# Altium footprint library CS_LIB.PCBLIB: 21 footprints (part 1 of 2)
Each footprint in its own frame and in the unit in brackets; x right, y up, seen from the top. Pads: shape width x height; smd on the part's side, far side on the other; paste and mask are expansions set on the pad; w line width, h text height; cw(c..) or ccw(c..) is an arc to the next point about the centre after c.
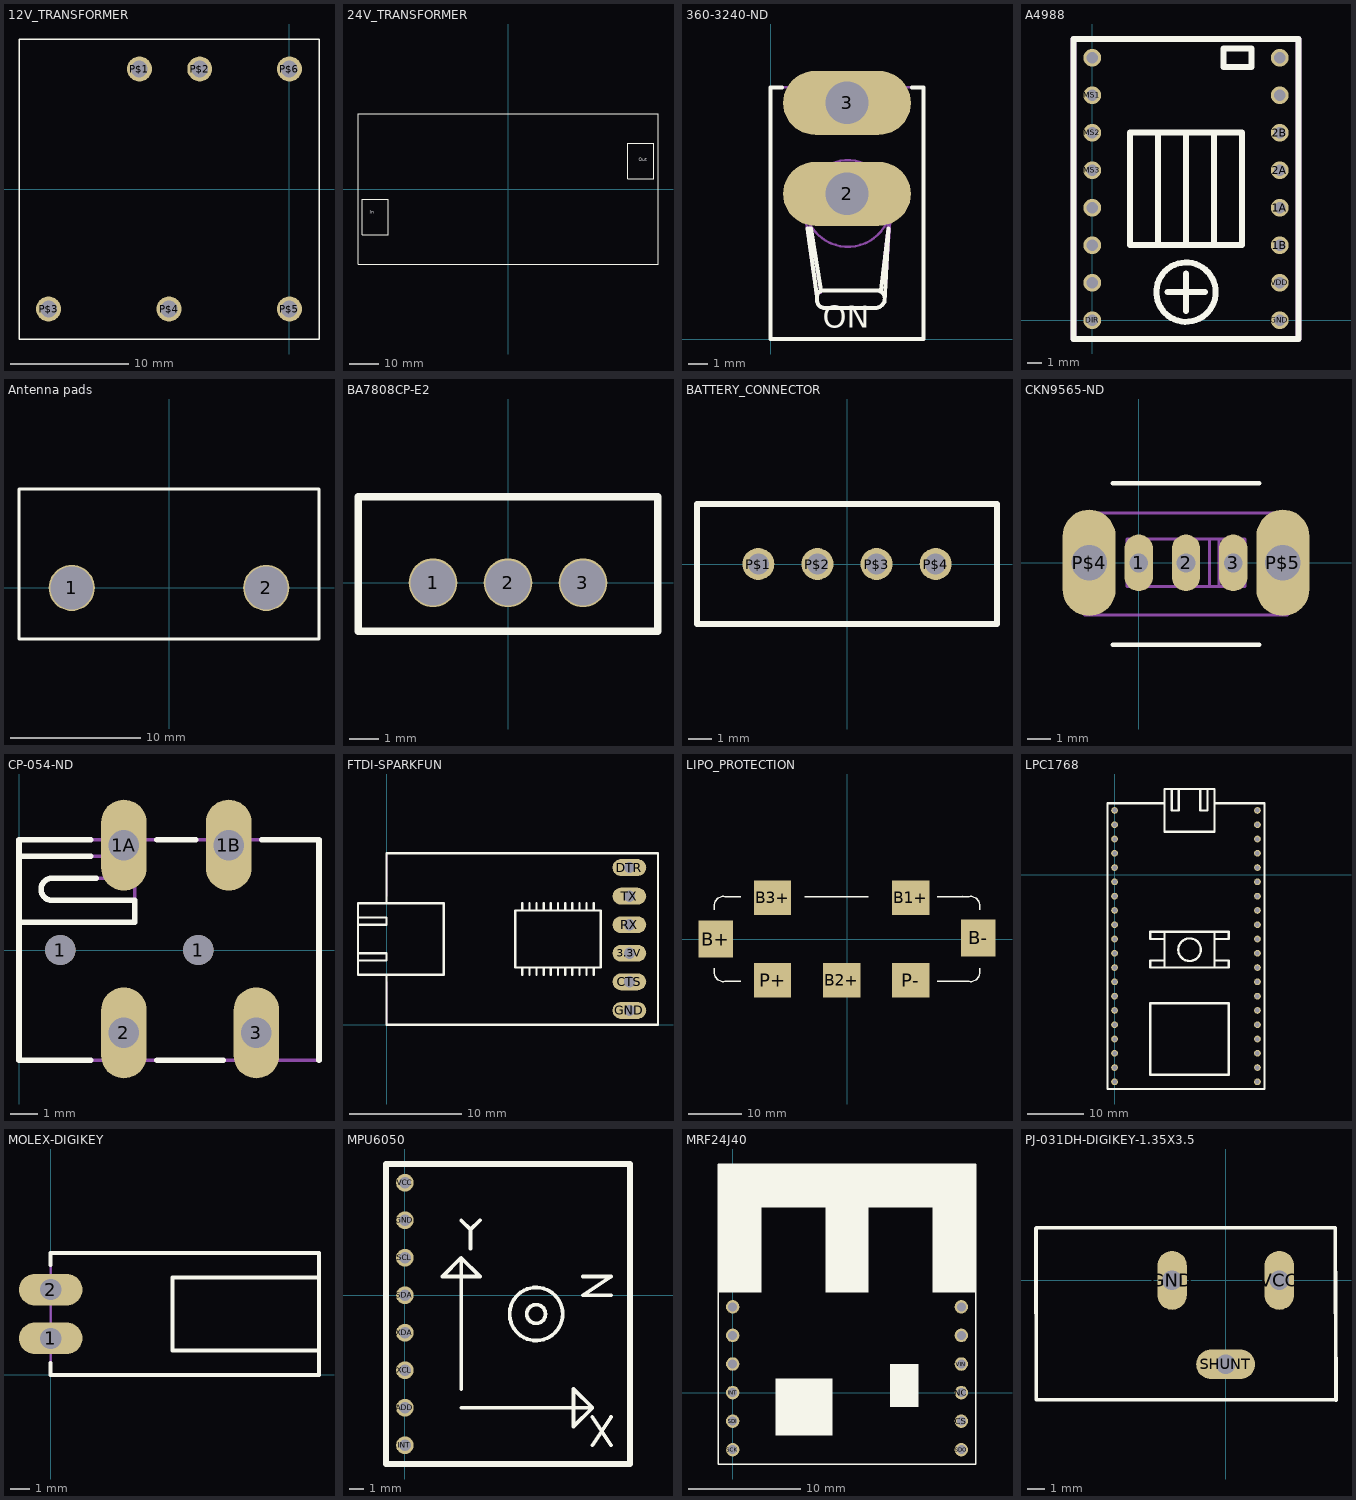
[diagram p0: the footprints below, top view; thin cyan lines are the x and y axes]

## 12V_TRANSFORMER [mm]
pads (6):
  round 2.1 hole 1.4: P$1(-12.7,10.16) P$2(-7.6,10.16) P$3(-20.4,-10.16) P$4(-10.2,-10.16) P$5(0,-10.16) P$6(0,10.16)
Top Overlay:
  lines w0.127: -22.9,-12.7 -22.9,12.7 2.5,12.7 2.5,-12.7 -22.9,-12.7

## 24V_TRANSFORMER [mil]
Top Overlay:
  lines w5: -2007.87,-1003.94 2007.87,-1003.94 2007.87,1003.94 -2007.87,1003.94 -2007.87,-1003.94 ; -1950,-610.24 -1600,-610.24 -1600,-137.8 -1950,-137.8 -1950,-610.24 ; 1600,137.8 1950,137.8 1950,610.24 1600,610.24 1600,137.8
  text "In" at -1850,-350 h77.5
  text "Out" at 1750,350 h77.5

## 360-3240-ND [mil]
pads (2):
  oval 259.83x129.91 hole 86.61: 2(155.51,295.28) 3(155.51,480.32)
Top Overlay:
  lines w8: 23.62,511.81 0,511.81 0,0 311.02,0 311.02,511.81 287.4,511.81 ; 102.36,98.43 82.68,224.41 74.8,224.41 94.49,86.61 ; 224.41,98.43 240.16,224.41 232.28,74.8 ; 94.49,86.61 cw(c106.31,86.61) 106.3,98.43 216.54,98.43 cw(c216.53,82.69) 232.28,82.68 cw(c212.59,82.67) 212.6,62.99 110.24,62.99 cw(c110.24,78.74) 94.49,78.74 94.49,86.61
  text "ON" at 106.3,7.87 h77.5
Mechanical 16:
  circle w5: c157.48,275.59 r88.03
  lines w5: 66.93,279.53 94.49,74.8 ; 70.87,287.4 102.36,94.49 ; 224.41,98.43 244.09,283.46 ; 232.28,74.8 244.09,255.91 ; 0,0 0,511.81 311.02,511.81 311.02,0 0,0 ; 94.49,78.74 ccw(c110.24,78.74) 110.24,62.99 212.6,62.99 ccw(c212.59,82.67) 232.28,82.68 ccw(c216.53,82.69) 216.54,98.43 110.24,98.43 ccw(c110.24,82.68) 94.49,82.68 94.49,78.74

## A4988 [mil]
pads (16):
  round 47.25 hole 31.5: 1A(500,300) 1B(500,200) 2A(500,400) 2B(500,500) DIR(0,0) ENABLE(0,700) GND(500,0) MS1(0,600) MS2(0,500) MS3(0,400) RESET(0,300) SLEEP(0,200) STEP(0,100) VDD(500,100) VGND(500,600) VMOT(500,700)
Top Overlay:
  circle w16: c250,75 r79.06
  lines w16: 200,75 300,75 ; 250,25 250,125 ; 175,200 100,200 100,500 175,500 ; 175,200 175,500 ; 175,200 250,200 ; 175,500 250,500 ; 250,200 325,200 ; 250,200 250,500 ; 250,500 325,500 ; 325,200 400,200 400,500 325,500 ; 325,200 325,500 ; -50,-50 -50,750 550,750 550,-50 -50,-50 ; 350,675 350,725 425,725 425,675 350,675
Mechanical 16:
  lines w16: -50,-50 550,-50 550,750 -50,750 -50,-50

## Antenna pads [mil] "sma connector standoff"
pads (2):
  round 140 hole 130: 1(-295,0) 2(295,0)
Top Overlay:
  lines w10: -455,-155 455,-155 455,300 -455,300 -455,-155

## BA7808CP-E2 [mil]
height 599
pads (3):
  round 65 hole 60: 1(-100,0) 2(0,0) 3(100,0)
Top Overlay:
  lines w10: -200,-65 -200,115 200,115 200,-65 -200,-65

## BATTERY_CONNECTOR [mil]
pads (4):
  round 53.15 hole 35.43: P$1(-147.64,0) P$2(-49.21,0) P$3(49.21,0) P$4(147.64,0)
Top Overlay:
  lines w10: -250,-100 250,-100 250,100 -250,100 -250,-100

## CKN9565-ND [mil]
pads (5):
  oval 47.25x94.5 hole 31.5: 1(0,0) 2(78.74,0) 3(157.48,0)
  oval 88.59x177.18 hole 59.06: P$4(-82.68,0) P$5(240.16,0)
Top Overlay:
  lines w8: -43.31,-136.61 200.79,-136.61 ; -43.31,132.68 200.79,132.68
Mechanical 16:
  lines w5: 118.11,-39.37 118.11,39.37 ; 118.11,-39.37 -19.69,-39.37 -19.69,39.37 118.11,39.37 ; 118.11,-39.37 133.86,-39.37 ; 118.11,39.37 133.86,39.37 ; 133.86,-39.37 133.86,39.37 ; 133.86,-39.37 145.67,-39.37 ; 133.86,39.37 145.67,39.37 ; 145.67,-39.37 145.67,39.37 ; 145.67,-39.37 157.48,-39.37 ; 145.67,39.37 157.48,39.37 ; 157.48,-39.37 157.48,39.37 ; 157.48,-39.37 177.17,-39.37 177.17,39.37 157.48,39.37 ; -90.55,-86.61 -90.55,82.68 248.03,82.68 248.03,-86.61 -90.55,-86.61

## CP-054-ND [mm]
pads (6):
  round 1.1 hole 1.1: 1(1.5,0) 1(6.5,0)
  oval 1.65x3.3 hole 1.1: 1A(3.8,3.8) 1B(7.6,3.8) 2(3.8,-3) 3(8.6,-3)
Top Overlay:
  lines w0.203: 2.6,-4 0,-4 0,1 ; 2.6,3.4 0,3.4 ; 2.6,4 0,4 0,3.4 ; 2.8,2.6 1.2,2.6 ccw(c1.2,2.2) 1.2,1.8 4.2,1.8 4.2,1 0,1 ; 5,-4 7.4,-4 ; 5,4 6.4,4 ; 8.8,4 10.87,4 10.87,-4 ; 0,1 0,3.4
Mechanical 16:
  lines w0.127: 0,1 0,-4 10.87,-4 10.87,4 0,4 0,3.4 ; 0,1 4.2,1 4.2,1.8 ; 0,1 0,3.4 ; 0,3.4 4.2,3.4 4.2,2.6 ; 4.2,1.8 4.2,2.6 ; 4.2,1.8 1.2,1.8 cw(c1.2,2.2) 1.2,2.6 4.2,2.6

## FTDI-SPARKFUN [mm]
pads (6):
  oval 3x1.5 hole 1: 3.3V(21.59,6.35) CTS(21.59,3.81) DTR(21.59,13.97) GND(21.59,1.27) RX(21.59,8.89) TX(21.59,11.43)
Top Overlay:
  lines w0.203: 12.065,4.445 12.065,5.08 ; 12.065,10.795 12.065,10.16 ; 12.7,4.445 12.7,5.08 ; 12.7,10.795 12.7,10.16 ; 13.335,4.445 13.335,5.08 ; 13.335,10.795 13.335,10.16 ; 13.97,4.445 13.97,5.08 ; 13.97,10.795 13.97,10.16 ; 14.605,4.445 14.605,5.08 ; 14.605,10.795 14.605,10.16 ; 15.24,4.445 15.24,5.08 ; 15.24,10.795 15.24,10.16 ; 15.875,4.445 15.875,5.08 ; 15.875,10.795 15.875,10.16 ; 16.51,4.445 16.51,5.08 ; 16.51,10.795 16.51,10.16 ; 17.145,4.445 17.145,5.08 ; 17.145,10.795 17.145,10.16 ; 17.78,4.445 17.78,5.08 ; 17.78,10.795 17.78,10.16 ; 18.415,4.445 18.415,5.08 ; 18.415,10.795 18.415,10.16 ; -2.54,5.715 -2.54,6.35 ; -2.54,5.715 0,5.715 0,6.35 -2.54,6.35 ; -2.54,5.715 -2.54,4.445 0,4.445 ; -2.54,6.35 -2.54,8.89 ; -2.54,8.89 -2.54,9.525 ; -2.54,8.89 0,8.89 0,9.525 -2.54,9.525 ; -2.54,9.525 -2.54,10.795 0,10.795 ; 0,4.445 0,0 24.13,0 24.13,15.24 0,15.24 0,10.795 ; 0,4.445 5.08,4.445 5.08,10.795 0,10.795 ; 12.065,5.08 11.43,5.08 11.43,10.16 12.065,10.16 ; 12.065,5.08 12.7,5.08 ; 12.065,10.16 12.7,10.16 ; 12.7,5.08 13.335,5.08 ; 12.7,10.16 13.335,10.16 ; 13.335,5.08 13.97,5.08 ; 13.335,10.16 13.97,10.16 ; 13.97,5.08 14.605,5.08 ; 13.97,10.16 14.605,10.16 ; 14.605,5.08 15.24,5.08 ; 14.605,10.16 15.24,10.16 ; 15.24,5.08 15.875,5.08 ; 15.24,10.16 15.875,10.16 ; 15.875,5.08 16.51,5.08 ; 15.875,10.16 16.51,10.16 ; 16.51,5.08 17.145,5.08 ; 16.51,10.16 17.145,10.16 ; 17.145,5.08 17.78,5.08 ; 17.145,10.16 17.78,10.16 ; 17.78,5.08 18.415,5.08 ; 17.78,10.16 18.415,10.16 ; 18.415,5.08 19.05,5.08 19.05,10.16 18.415,10.16
Mechanical 16:
  lines w0.127: 0,3.81 0,0 22.86,0 ; 0,11.43 0,15.24 22.86,15.24

## LIPO_PROTECTION [mm]
pads (7):
  rect 7x6.5 smd: B1+(12,7.75) B2+(-1,-7.75) B3+(-14,7.75) P+(-14,-7.75) P-(12,-7.75)
  rect 6.5x7 smd: B+(-24.75,0) B-(24.75,0.211)
Top Overlay:
  lines w0.254: -25,-5.5 -25,-6.5 ccw(c-23.25,-6.25) -23,-8 -20,-8 ; -25,5.5 -25,6.5 cw(c-23.25,6.25) -23,8 -20,8 ; -8,8 4,8 ; 17,-8 23,-8 ccw(c23.25,-6.25) 25,-6.5 25,-5.5 ; 17,8 23,8 ; 21.801,8.032 23,8 ; 25,5.5 25,6.5 ccw(c23.25,6.25) 23,8

## LPC1768 [mil]
pads (40):
  round 47.25 hole 31.5: 5(0,50) 6(0,-50) 7(0,-150) 8(0,-250) 9(0,-350) 10(0,-450) 11(0,-550) 12(0,-650) 13(0,-750) 14(0,-850) 15(0,-950) 16(0,-1050) 17(0,-1150) 18(0,-1250) 19(0,-1350) 20(0,-1450) 21(1000,-1450) 22(1000,-1350) 23(1000,-1250) 24(1000,-1150) 25(1000,-1050) 26(1000,-950) 27(1000,-850) 28(1000,-750) 29(1000,-650) 30(1000,-550) D+(1000,-450) D-(1000,-350) GND(0,450) IF+(1000,150) IF-(1000,250) NR(0,150) RD+(1000,-50) RD-(1000,50) TD+(1000,-250) TD-(1000,-150) VB(0,250) VIN(0,350) VOUT(1000,450) VU(1000,350)
Top Overlay:
  circle w16: c525,-525 r79.06
  lines w16: 350,-650 700,-650 ; 350,-650 350,-600 ; 350,-650 250,-650 250,-600 350,-600 ; 350,-600 350,-450 ; 350,-450 350,-400 ; 350,-450 250,-450 250,-400 350,-400 ; 350,-400 700,-400 ; 350,500 350,300 700,300 700,500 ; 350,500 350,600 400,600 ; 350,500 -50,500 -50,-1500 1050,-1500 1050,500 700,500 ; 400,600 450,600 ; 400,600 400,450 450,450 450,600 ; 450,600 600,600 ; 600,600 650,600 ; 600,600 600,450 650,450 650,600 ; 650,600 700,600 700,500 ; 700,-650 700,-600 ; 700,-650 800,-650 800,-600 700,-600 ; 700,-600 700,-450 ; 700,-450 700,-400 ; 700,-450 800,-450 800,-400 700,-400 ; 250,-1400 800,-1400 800,-900 250,-900 250,-1400

## MOLEX-DIGIKEY [mil]
pads (2):
  oval 129.93x64.97 hole 43.31: 1(0,75) 2(0,175)
Top Overlay:
  lines w8: 0,25 0,0 550,0 550,50 ; 0,225 0,250 550,250 550,200 ; 550,50 250,50 250,200 550,200 ; 550,50 550,200
Mechanical 16:
  lines w5: 0,0 550,0 550,250 0,250 0,0

## MPU6050 [mil]
pads (8):
  round 47.25 hole 31.5: ADD(0,-300) GND(0,200) INT(0,-400) SCL(0,100) SDA(0,0) VCC(0,300) XCL(0,-200) XDA(0,-100)
Top Overlay:
  circle w10: c350,-50 r25
  circle w10: c350,-50 r70.71
  lines w10: 150,-300 500,-300 ; 150,-250 150,100 ; 150,200 175,175 ; 175,125 175,175 ; 200,200 175,175 ; 475,50 550,50 475,0 550,0 ; 500,-400 550,-325 ; 500,-325 550,-400 ; 150,100 100,50 200,50 150,100 ; 500,-300 450,-250 450,-350 500,-300
  lines w16: -50,-450 600,-450 600,350 -50,350 -50,-450

## MRF24J40 [mil]
pads (12):
  round 47.25 hole 31.5: CS(800,-100) GND1(0,300) GND2(800,300) GND3(800,200) INT(0,0) NC(800,0) RESET(0,200) SCK(0,-200) SDI(0,-100) SDO(800,-200) VIN(800,100) WAKE(0,100)
Top Overlay:
  rectangle: 550,-50 650,100
  rectangle: 150,-150 350,50
  rectangle: -50,350 100,650
  rectangle: 700,350 850,650
  rectangle: 325,350 475,650
  rectangle: -50,650 850,800
  lines w5: -50,650 850,650 ; -50,650 -50,800 850,800 850,650 ; -50,650 -50,-250 850,-250 850,650

## PJ-031DH-DIGIKEY-1.35X3.5 [mm]
pads (3):
  oval 1.65x3.3 hole 1.1: GND(-3,0) VCC(3,0)
  oval 3.3x1.65 hole 1.1: SHUNT(0,-4.7)
Top Overlay:
  lines w0.203: -10.613,2.913 -10.607,-6.686 ; -10.585,2.931 6.057,2.951 ; -10.538,-6.681 6.126,-6.679 ; 6.14,2.947 6.174,-6.72